# EAGLE library part TDA8551 (library ads4)
NXP TDA8551 1W BTL audio amplifier with digital volume control
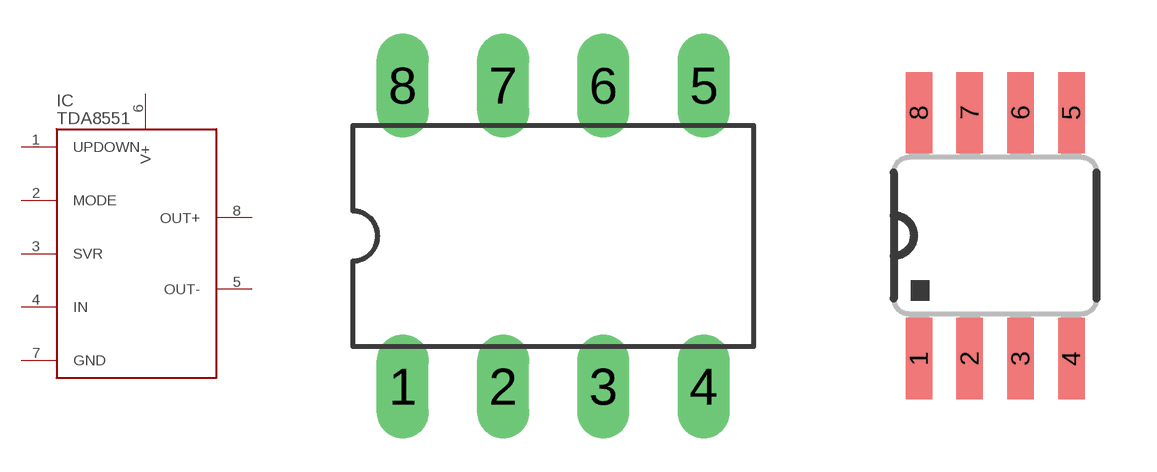
[diagram p95: symbol with the pads of DIL08; footprints DIL08, SO08]

Designator prefix IC

## TDA8551  [DIL08]
1  UPDOWN  pas
2  MODE  pas
3  SVR  pas
4  IN  pas
5  OUT-  pas
6  V+  pwr
7  GND  pwr
8  OUT+  pas

## TDA8551T  [SO08]
Pads as for DIL08

## Footprint DIL08 (pad centres in mm)
8-pin Dual-In Line (copied from 74xx-us.lbr)
drill 0.813 long: 1 -3.81,-3.81; 2 -1.27,-3.81; 3 1.27,-3.81; 4 3.81,-3.81; 5 3.81,3.81; 6 1.27,3.81; 7 -1.27,3.81; 8 -3.81,3.81

## Footprint SO08 (pad centres in mm)
SO08 Package from 74xx-us.lbr 0.15" body
smd 0.66 x 2.032: 1 -1.905,-3.073; 2 -0.635,-3.073; 3 0.635,-3.073; 4 1.905,-3.073; 5 1.905,3.073; 6 0.635,3.073; 7 -0.635,3.073; 8 -1.905,3.073